# Altium schematic symbol library ARS_lib_SCH.SchLib: 116 symbols (part 2 of 2)
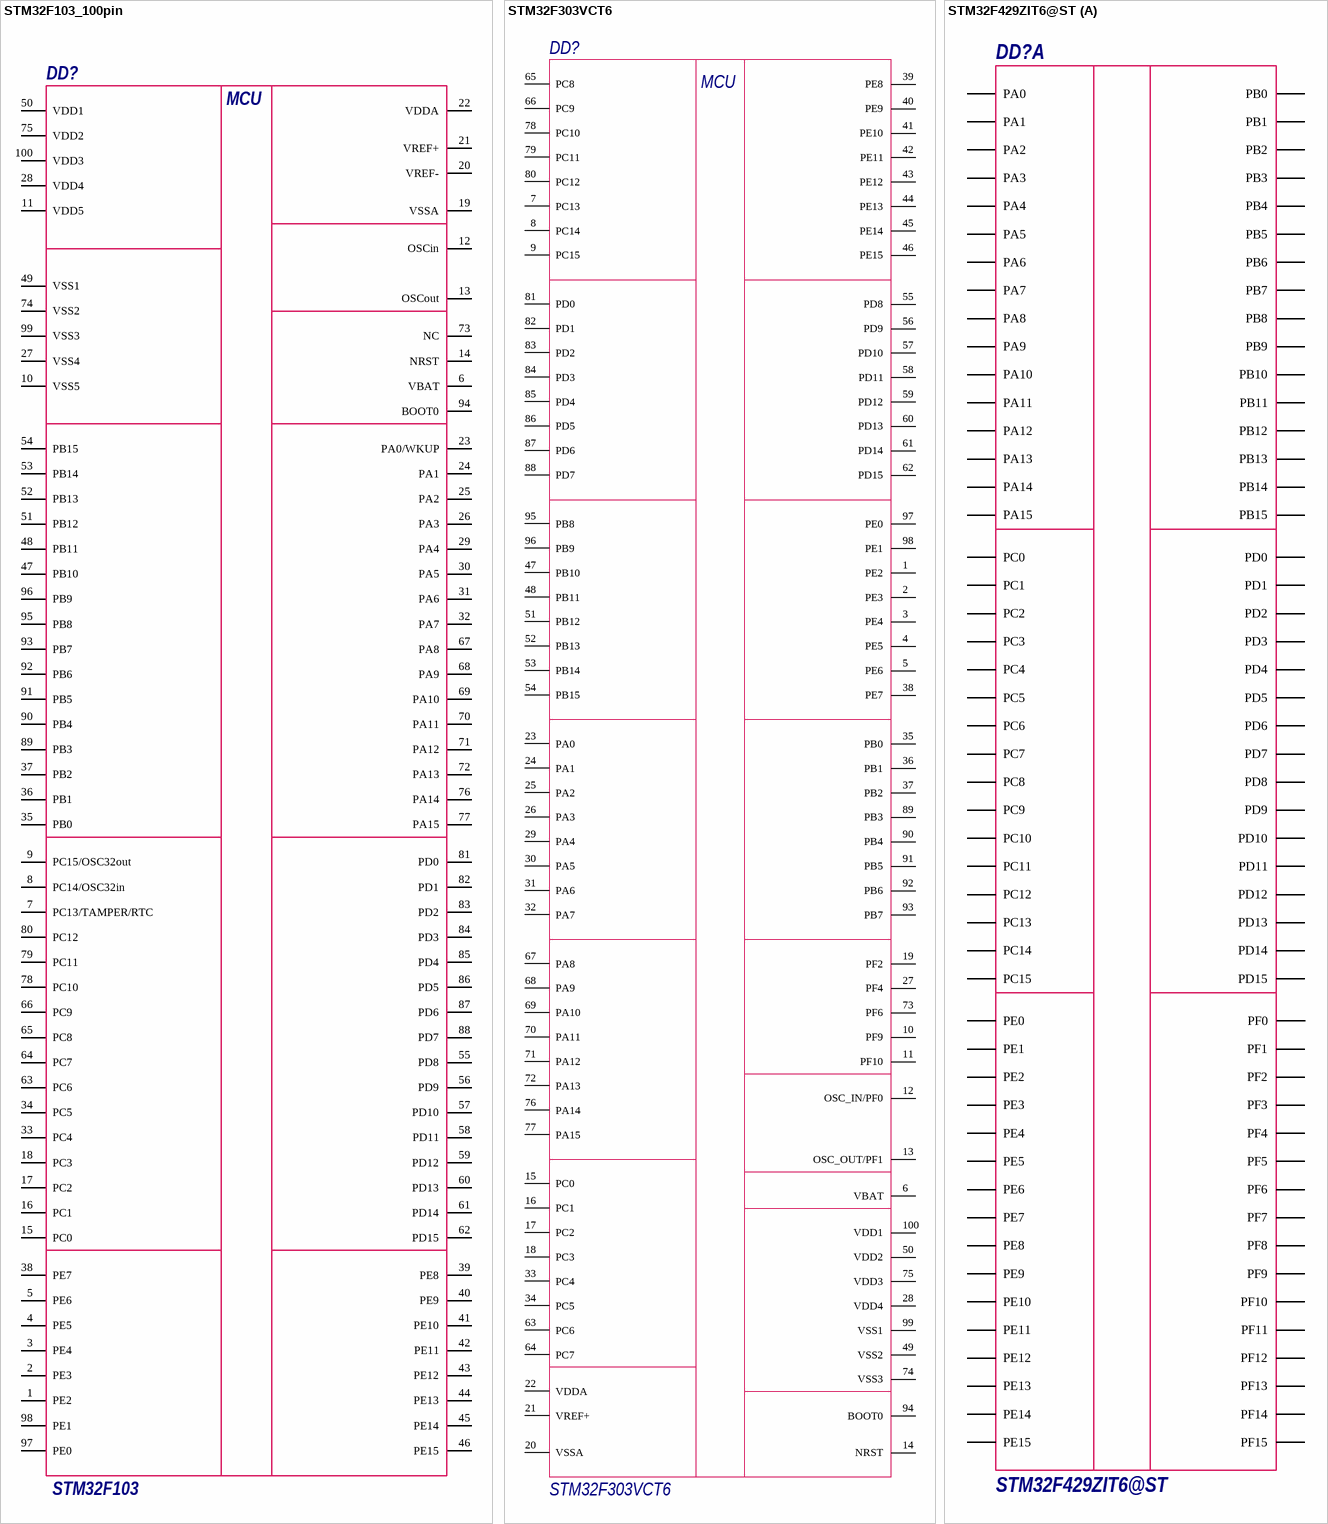
[diagram p11: symbols STM32F103_100pin to STM32F429ZIT6@ST]

## STM32F103_100pin
designator DD?, comment Value1: MCU  (hidden comment: STM32F103)
Manufacturer: ST Microelectronics; PartNumber: {value}; Rate: -0,3...4,0В; Shop: магазин с самой дешевой ценой; Notice: 100 пиновая версия STM32F103; New: N; Datasheet: http://www.st.com/content/ccc/resource/technical/document/datasheet/33/d4/6f/1d/df/0b/4c/6d/CD00161566.pdf/files/CD00161566.pdf/jcr:content/translations/en.CD00161566.pdf; Case: корпус; Value: STM32F103
footprint LQFP100 (TSQFP, 100-Leads, Body 14,00x14,00mm, Pitch 0,50mm, IPC Medium Density)
pins: 1 PE2, 2 PE3, 3 PE4, 4 PE5, 5 PE6, 6 VBAT, 7 PC13/TAMPER/RTC, 8 PC14/OSC32in, 9 PC15/OSC32out, 10 VSS5, 11 VDD5, 12 OSCin, 13 OSCout, 14 NRST, 15 PC0, 16 PC1, 17 PC2, 18 PC3, 19 VSSA, 20 VREF-, 21 VREF+, 22 VDDA, 23 PA0/WKUP, 24 PA1, 25 PA2, 26 PA3, 27 VSS4, 28 VDD4, 29 PA4, 30 PA5, 31 PA6, 32 PA7, 33 PC4, 34 PC5, 35 PB0, 36 PB1, 37 PB2, 38 PE7, 39 PE8, 40 PE9, 41 PE10, 42 PE11, 43 PE12, 44 PE13, 45 PE14, 46 PE15, 47 PB10, 48 PB11, 49 VSS1, 50 VDD1, 51 PB12, 52 PB13, 53 PB14, 54 PB15, 55 PD8, 56 PD9, 57 PD10, 58 PD11, 59 PD12, 60 PD13, 61 PD14, 62 PD15, 63 PC6, 64 PC7, 65 PC8, 66 PC9, 67 PA8, 68 PA9, 69 PA10, 70 PA11, 71 PA12, 72 PA13, 73 NC, 74 VSS2, 75 VDD2, 76 PA14, 77 PA15, 78 PC10, 79 PC11, 80 PC12, 81 PD0, 82 PD1, 83 PD2, 84 PD3, 85 PD4, 86 PD5, 87 PD6, 88 PD7, 89 PB3, 90 PB4, 91 PB5, 92 PB6, 93 PB7, 94 BOOT0, 95 PB8, 96 PB9, 97 PE0, 98 PE1, 99 VSS3, 100 VDD3

## STM32F303VCT6
designator DD?
Manufactore: STMicroelectronics; PartNumber: {value}; Rate: 2.0 V to 3.6 V; New: N; Datasheet: http://www.st.com/content/ccc/resource/technical/document/datasheet/f2/1f/e1/41/ef/59/4d/50/DM00058181.pdf/files/DM00058181.pdf/jcr:content/translations/en.DM00058181.pdf; Footprint: LQFP100; Value: value
footprint LQFP100 (TSQFP, 100-Leads, Body 14,00x14,00mm, Pitch 0,50mm, IPC Medium Density)
pins: 1 PE2, 2 PE3, 3 PE4, 4 PE5, 5 PE6, 6 VBAT, 7 PC13, 8 PC14, 9 PC15, 10 PF9, 11 PF10, 12 OSC_IN/PF0, 13 OSC_OUT/PF1, 14 NRST, 15 PC0, 16 PC1, 17 PC2, 18 PC3, 19 PF2, 20 VSSA, 21 VREF+, 22 VDDA, 23 PA0, 24 PA1, 25 PA2, 26 PA3, 27 PF4, 28 VDD4, 29 PA4, 30 PA5, 31 PA6, 32 PA7, 33 PC4, 34 PC5, 35 PB0, 36 PB1, 37 PB2, 38 PE7, 39 PE8, 40 PE9, 41 PE10, 42 PE11, 43 PE12, 44 PE13, 45 PE14, 46 PE15, 47 PB10, 48 PB11, 49 VSS2, 50 VDD2, 51 PB12, 52 PB13, 53 PB14, 54 PB15, 55 PD8, 56 PD9, 57 PD10, 58 PD11, 59 PD12, 60 PD13, 61 PD14, 62 PD15, 63 PC6, 64 PC7, 65 PC8, 66 PC9, 67 PA8, 68 PA9, 69 PA10, 70 PA11, 71 PA12, 72 PA13, 73 PF6, 74 VSS3, 75 VDD3, 76 PA14, 77 PA15, 78 PC10, 79 PC11, 80 PC12, 81 PD0, 82 PD1, 83 PD2, 84 PD3, 85 PD4, 86 PD5, 87 PD6, 88 PD7, 89 PB3, 90 PB4, 91 PB5, 92 PB6, 93 PB7, 94 BOOT0, 95 PB8, 96 PB9, 97 PE0, 98 PE1, 99 VSS1, 100 VDD1
text: MCU

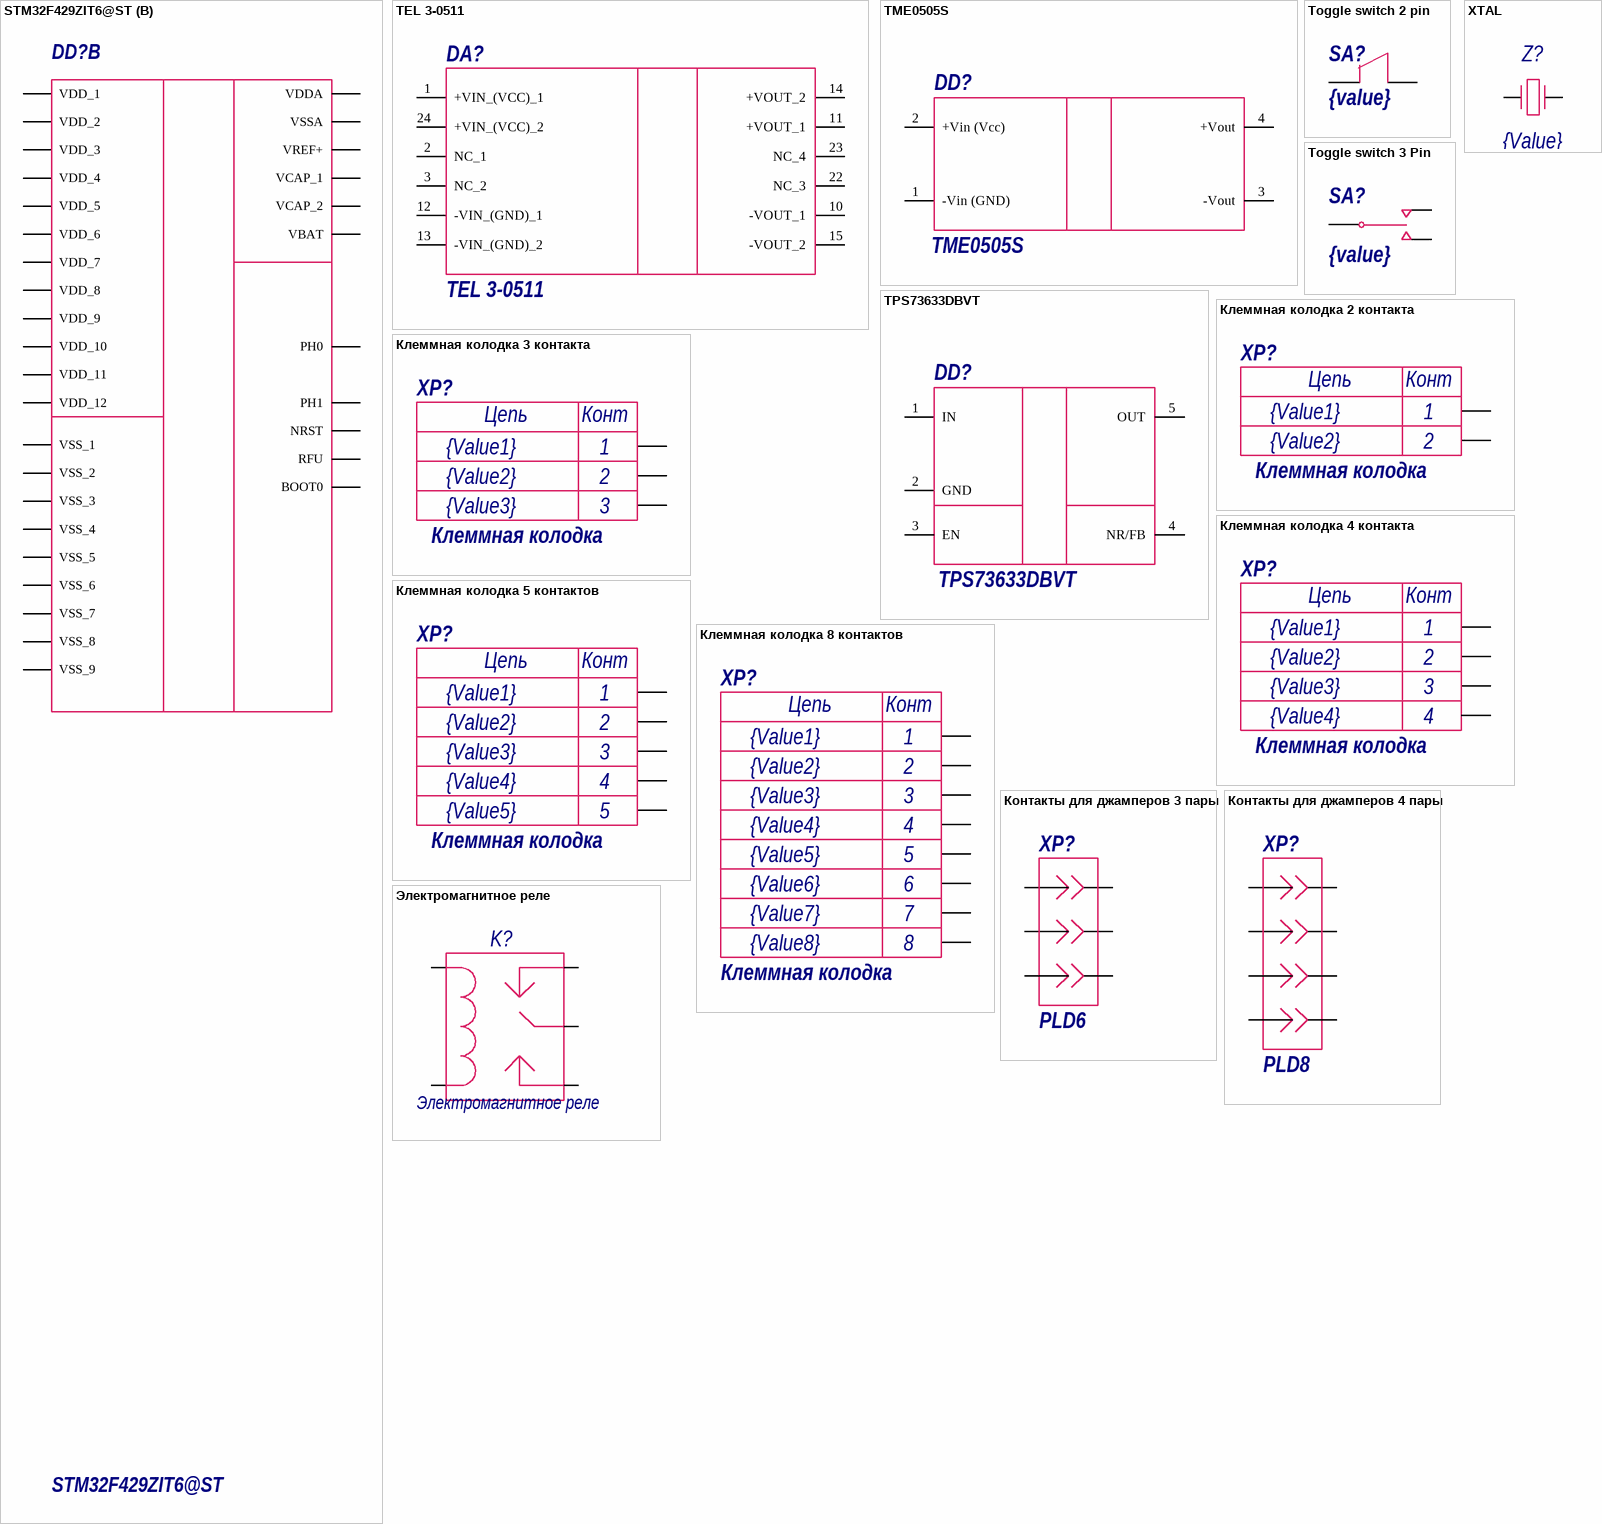
[diagram p10: symbols STM32F429ZIT6@ST to Электромагнитное реле]

## STM32F429ZIT6@ST
designator DD?  value STM32F429ZIT6@ST  (hidden comment: *)
New: N; PartNumber: *
footprint QFP50-144N
part A pins: 1 PE2, 2 PE3, 3 PE4, 4 PE5, 5 PE6, 7 PC13, 8 PC14, 9 PC15, 10 PF0, 11 PF1, 12 PF2, 13 PF3, 14 PF4, 15 PF5, 18 PF6, 19 PF7, 20 PF8, 21 PF9, 22 PF10, 26 PC0, 27 PC1, 28 PC2, 29 PC3, 34 PA0, 35 PA1, 36 PA2, 37 PA3, 40 PA4, 41 PA5, 42 PA6, 43 PA7, 44 PC4, 45 PC5, 46 PB0, 47 PB1, 48 PB2, 49 PF11, 50 PF12, 53 PF13, 54 PF14, 55 PF15, 58 PE7, 59 PE8, 60 PE9, 63 PE10, 64 PE11, 65 PE12, 66 PE13, 67 PE14, 68 PE15, 69 PB10, 70 PB11, 73 PB12, 74 PB13, 75 PB14, 76 PB15, 77 PD8, 78 PD9, 79 PD10, 80 PD11, 81 PD12, 82 PD13, 85 PD14, 86 PD15, 96 PC6, 97 PC7, 98 PC8, 99 PC9, 100 PA8, 101 PA9, 102 PA10, 103 PA11, 104 PA12, 105 PA13, 109 PA14, 110 PA15, 111 PC10, 112 PC11, 113 PC12, 114 PD0, 115 PD1, 116 PD2, 117 PD3, 118 PD4, 119 PD5, 122 PD6, 123 PD7, 133 PB3, 134 PB4, 135 PB5, 136 PB6, 137 PB7, 139 PB8, 140 PB9, 141 PE0, 142 PE1
part B pins: 6 VBAT, 16 VSS_1, 17 VDD_1, 23 PH0, 24 PH1, 25 NRST, 30 VDD_2, 31 VSSA, 32 VREF+, 33 VDDA, 38 VSS_2, 39 VDD_3, 51 VSS_3, 52 VDD_4, 61 VSS_4, 62 VDD_5, 71 VCAP_1, 72 VDD_6, 83 VSS_5, 84 VDD_7, 94 VSS_6, 95 VDD_8, 106 VCAP_2, 107 VSS_7, 108 VDD_9, 120 VSS_8, 121 VDD_10, 130 VSS_9, 131 VDD_11, 138 BOOT0, 143 RFU, 144 VDD_12

## TEL 3-0511
designator DA?  value TEL 3-0511  (hidden comment: *)
New: NO; PartNumber: *
footprint DIL-24
pins: 1 +VIN_(VCC)_1, 2 NC_1, 3 NC_2, 10 -VOUT_1, 11 +VOUT_1, 12 -VIN_(GND)_1, 13 -VIN_(GND)_2, 14 +VOUT_2, 15 -VOUT_2, 22 NC_3, 23 NC_4, 24 +VIN_(VCC)_2

## TME0505S
designator DD?
Manufacturer: AIMTEC; Rate: 10,8…13,2В; Shop: ЭЛТЕХ-СПБ; Datasheet: http://www.aimtec.com/site/Aimtec/files/Datasheet/HIGHResolution/AM3D-Z.PDF; Notice: *; Case: SIP7; Value: TME0505S
footprint TME0505S
pins: 1 -Vin (GND) , 2 +Vin (Vcc), 3 -Vout, 4 +Vout

## Toggle switch 2 pin
designator SA?  value {value}  (hidden comment: *)
New: NO; PartNumber: *
footprint Toggle switch MTS 2 PIN
pins: 1, 2

## Toggle switch 3 Pin
designator SA?  value {value}  (hidden comment: *)
New: NO; PartNumber: *
footprint Toggle Switch MTS 3pin
pins: 1, 2, 3

## TPS73633DBVT
designator DD?
Manufacturer: AIMTEC; Rate: 10,8…13,2В; Shop: ЭЛТЕХ-СПБ; Datasheet: http://www.aimtec.com/site/Aimtec/files/Datasheet/HIGHResolution/AM3D-Z.PDF; Notice: *; Case: SIP7; Value: TPS73633DBVT
footprint SOT-23 1.45mm max height
pins: 1 IN, 2 GND, 3 EN, 4 NR/FB, 5 OUT

## XTAL
designator Z?  value {Value}  (hidden comment: *)
XTAL; New: Y; PartNumber: *
footprint HC49US
footprint KX-7 resonator (DFN, 4-Leads, Body 2,50x3,20mm, Pitch 2,10mm, IPC Medium Density)
pins: 1, 3

## Клеммная колодка 2 контакта
designator XP?  value Клеммная колодка  Value1: {Value1}  Value2: {Value2}  (hidden comment: *)
Manufacturer: Zhenqin; Notice: Вилка-мама 14 пинов, шаг 2.54мм; Rate: 1000В AC 1min; Datasheet: https://lib.chipdip.ru/273/DOC000273693.pdf; Shop: https://www.chipdip.ru/product/idc-14f
footprint DEGSON 5,08mm 2pins
footprint DEGSON 2,50mm 2pins
footprint DEGSON 8EDGRC-3.5-02P
pins: 1, 2
text: Цепь; Конт

## Клеммная колодка 3 контакта
designator XP?  value Клеммная колодка  Value1: {Value1}  Value2: {Value2}  Value3: {Value3}  (hidden comment: *)
Manufacturer: Zhenqin; Notice: Вилка-мама 14 пинов, шаг 2.54мм; Rate: 1000В AC 1min; Datasheet: https://lib.chipdip.ru/273/DOC000273693.pdf; Shop: https://www.chipdip.ru/product/idc-14f
footprint DEGSON 5,08mm 3pins
footprint DEGSON 2,50mm 3pins
pins: 1, 2, 3
text: Цепь; Конт

## Клеммная колодка 4 контакта
designator XP?  value Клеммная колодка  Value4: {Value4}  Value1: {Value1}  Value2: {Value2}  Value3: {Value3}  (hidden comment: *)
Manufacturer: Zhenqin; Notice: Вилка-мама 14 пинов, шаг 2.54мм; Rate: 1000В AC 1min; Datasheet: https://lib.chipdip.ru/273/DOC000273693.pdf; Shop: https://www.chipdip.ru/product/idc-14f
footprint DEGSON 5,08mm 4pins
footprint DEGSON 2,50mm 4pins
pins: 1, 2, 3, 4
text: Цепь; Конт

## Клеммная колодка 5 контактов
designator XP?  value Клеммная колодка  Value1: {Value1}  Value2: {Value2}  Value3: {Value3}  Value4: {Value4}  Value5: {Value5}  (hidden comment: *)
Manufacturer: Zhenqin; Notice: Вилка-мама 14 пинов, шаг 2.54мм; Rate: 1000В AC 1min; Datasheet: https://lib.chipdip.ru/273/DOC000273693.pdf; Shop: https://www.chipdip.ru/product/idc-14f
footprint DEGSON 2,50mm 5pins
footprint DEGSON 5,08mm 5pins
pins: 1, 2, 3, 4, 5
text: Цепь; Конт

## Клеммная колодка 8 контактов
designator XP?  value Клеммная колодка  Value1: {Value1}  Value2: {Value2}  Value3: {Value3}  Value4: {Value4}  Value5: {Value5}  Value6: {Value6}  Value7: {Value7}  Value8: {Value8}  (hidden comment: *)
Manufacturer: Zhenqin; Notice: Вилка-мама 14 пинов, шаг 2.54мм; Rate: 1000В AC 1min; Datasheet: https://lib.chipdip.ru/273/DOC000273693.pdf; Shop: https://www.chipdip.ru/product/idc-14f
footprint DEGSON 5,08mm 8pins
footprint DEGSON 2,50mm 8pins
pins: 1, 2, 3, 4, 5, 6, 7, 8
text: Цепь; Конт

## Контакты для джамперов 3 пары
designator XP?  value PLD6  (hidden comment: *)
Manufacturer: Connfly; Notice: Вилка штырьевая 4 пина, шаг 2,54мм; Rate: 500В AC 1min; Datasheet: https://lib.chipdip.ru/227/DOC000227157.pdf; Shop: https://www.chipdip.ru/product/pls-4
footprint PLD6
pins: 1 M2,5, 2 M2,5, 3 M2,5, 4 M2,5, 5 M2,5, 6 M2,5

## Контакты для джамперов 4 пары
designator XP?  value PLD8  (hidden comment: *)
Manufacturer: Connfly; Notice: Вилка штырьевая 4 пина, шаг 2,54мм; Rate: 500В AC 1min; Datasheet: https://lib.chipdip.ru/227/DOC000227157.pdf; Shop: https://www.chipdip.ru/product/pls-4
footprint PLD8
pins: 1 M2,5, 2 M2,5, 3 M2,5, 4 M2,5, 5 M2,5, 6 M2,5, 7 M2,5, 8 M2,5

## Электромагнитное реле
designator K?
footprint JQX-15F(T90)
pins: A1, A2, C_2, NC, NO